# Altium schematic symbol library MICROFIT_4WAY.SchLib: 1 symbol
Pins are listed as number, name and electrical type; pins without a type are passive.

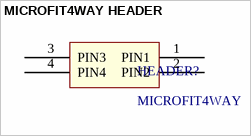
[diagram p0: symbol MICROFIT4WAY HEADER]

## MICROFIT4WAY HEADER
designator HEADER?, comment MICROFIT4WAY
MICROFIT4WAY HEADER
footprint MULTIFIT-4WAY
pins: 1 PIN1, 2 PIN2, 3 PIN3, 4 PIN4